# Altium schematic symbol library 74HC04D_Inverter.SchLib: 1 symbol
Pins are listed as number, name and electrical type; pins without a type are passive.

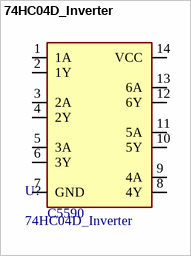
[diagram p0: symbol 74HC04D_Inverter]

## 74HC04D_Inverter
designator U?  LCSC: C5590
6 14ns@6V,50pF 2uA 2V~6V SOP-14  Inverters ROHS
footprint 74HC04D_Inverter
pins: 1 1A, 2 1Y, 3 2A, 4 2Y, 5 3A, 6 3Y, 7 GND, 8 4Y, 9 4A, 10 5Y, 11 5A, 12 6Y, 13 6A, 14 VCC